# EAGLE library part AVR-ICSP (library FiveVolt)
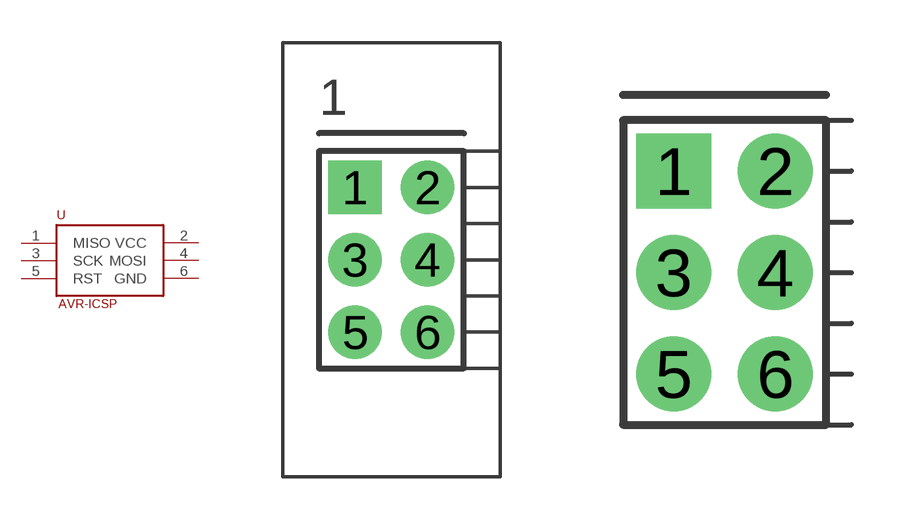
[diagram p1: symbol with the pads of AVR-ICSP; footprints AVR-ICSP, AVR-ICSP-MIN]

Designator prefix -

## AVR-ICSPAVR-ICSP (EAGLEUP: JP3Q)  [AVR-ICSP]
1  MISO
2  VCC
3  SCK
4  MOSI
5  RST
6  GND

## AVR-ICSPAVR-ICSP-MIN (EAGLEUP: JP3Q)  [AVR-ICSP-MIN]
Pads as for AVR-ICSP

## Footprint AVR-ICSP (pad centres in mm)
AVR-ICSP
drill 1.016 pad 1.88 square: 1 -1.27,2.54
drill 1.016 pad 1.88 round: 2 1.27,2.54; 3 -1.27,0; 4 1.27,0; 5 -1.27,-2.54; 6 1.27,-2.54

## Footprint AVR-ICSP-MIN (pad centres in mm)
drill 1.016 pad 1.88 square: 1 -1.27,2.54
drill 1.016 pad 1.88 round: 2 1.27,2.54; 3 -1.27,0; 4 1.27,0; 5 -1.27,-2.54; 6 1.27,-2.54